# EAGLE library part ISL78083 (library IC-Power)
Renesas ISL78083 Automotive Camera Power Management IC with Three Synchronous Buck Regulators and One Low Dropout Linear Regulator For Datasheet click: ISL78083 <https://www.renesas.com/in/en/www/doc/datasheet/r33ds0007eu-isl78083.pdf> Related Literature For a full list of related documents, visit our website: ISL78083 device page <https://www.renesas.com/in/en/products/automotive/power-management/pmic-assp/device/ISL78083.html#overviewInfo>
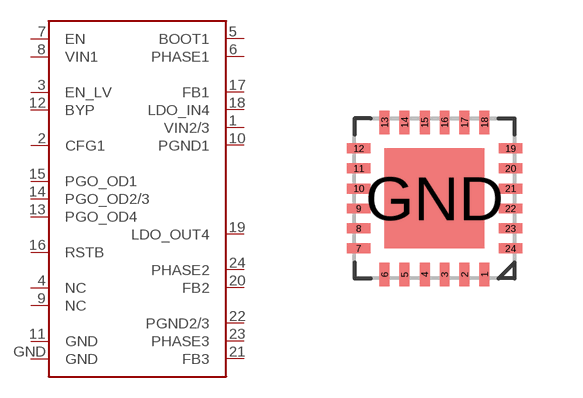
[diagram p0: symbol with the pads of 24LDQFN; footprint 24LDQFN]

Designator prefix U

## ISL78083 (DATASHEET: value; DESCRIPTION: Power Management Specialised - PMIC Automotive Camera PMIC; DIGIKEY-PART-NUMBER: value; LINK: value; MANUFACTURER: value; MPN: value; TECHNOLOGY: value; UNIT-PRICE: value)  [24LDQFN]
1  VIN2/3
2  CFG1
3  EN_LV
4  NC
5  BOOT1
6  PHASE1
7  EN
8  VIN1
9  NC
10  PGND1
11  GND
12  BYP
13  PGO_OD4
14  PGO_OD2/3
15  PGO_OD1
16  RSTB
17  FB1
18  LDO_IN4
19  LDO_OUT4
20  FB2
21  FB3
22  PGND2/3
23  PHASE3
24  PHASE2
GND  GND

## Footprint 24LDQFN (pad centres in mm)
Package Outline Drawing L24.4x4K 24 Lead Step Cut Quad Flat No-Lead Plastic Package (SCQFN) Rev 2, 12/18 For the most recent package outline drawing, see L24.4x4K. <https://www.renesas.com/in/en/package-image/pdf/outdrawing/l24.4x4k.pdf>
smd 0.25 x 0.6: 1 1.25,-1.9; 2 0.75,-1.9; 3 0.25,-1.9; 4 -0.25,-1.9; 5 -0.75,-1.9; 6 -1.25,-1.9; 13 -1.25,1.9; 14 -0.75,1.9; 15 -0.25,1.9; 16 0.25,1.9; 17 0.75,1.9; 18 1.25,1.9
smd 0.6 x 0.25: 7 -1.9,-1.25; 8 -1.9,-0.75; 9 -1.9,-0.25; 10 -1.9,0.25; 11 -1.9,0.75; 12 -1.9,1.25; 19 1.9,1.25; 20 1.9,0.75; 21 1.9,0.25; 22 1.9,-0.25; 23 1.9,-0.75; 24 1.9,-1.25
smd 2.5 x 2.5: GND 0,0